# Altium integrated library MI0603M121R-10.IntLib: 1 symbol
Pins are listed as number, name and electrical type; pins without a type are passive.

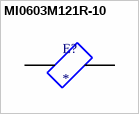
[diagram p0: symbol MI0603M121R-10]

## MI0603M121R-10
designator E?
Ferrite Bead (Chip Bead), 1.6 x 0.8 x 0.8mm (0603), 55Ohms impedance at 25 MHz; MP: MI0603M121R-10; MF: Laird; Package: 0603 Laird; Check_prices: https://www.snapeda.com/parts/MI0603M121R-10/Laird/view-part/332874/?ref=eda; Value: *; Price: None; Availability: In Stock; SnapEDA_Link: https://www.snapeda.com/parts/MI0603M121R-10/Laird/view-part/332874/?ref=snap
footprint FB_MI0603M121R-10
pins: 1, 2